# EAGLE library part RJ45_WITH_ELEC (library 3D_MIG_Controller)
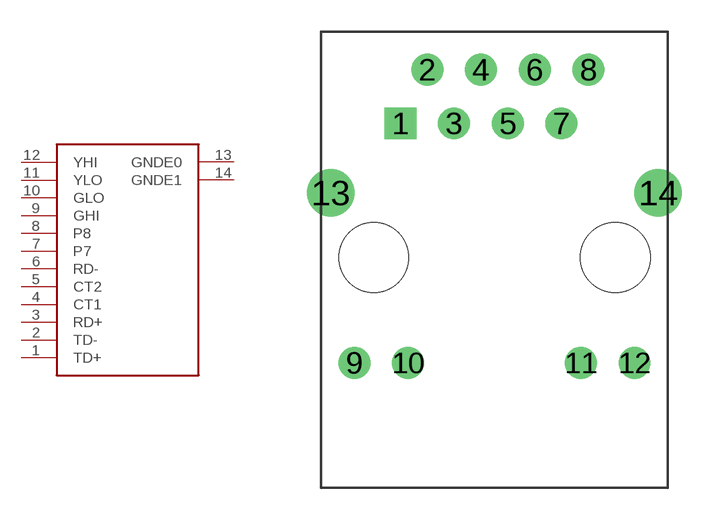
[diagram p26: symbol with the pads of RJ45_TH_ELEC; footprint RJ45_TH_ELEC]

Designator prefix RJ

## RJ45_WITH_ELEC  [RJ45_TH_ELEC]
1  TD+
2  TD-
3  RD+
4  CT1
5  CT2
6  RD-
7  P7
8  P8
9  GHI
10  GLO
11  YLO
12  YHI
13  GNDE0
14  GNDE1

## Footprint RJ45_TH_ELEC (pad centres in mm)
drill 1 square: 1 -4.45,-2.54
drill 1: 2 -3.18,0; 3 -1.91,-2.54; 4 -0.635,0; 5 0.635,-2.54; 6 1.91,0; 7 3.17,-2.54; 8 4.445,0; 9 -6.63,-13.88; 10 -4.09,-13.88; 11 4.09,-13.88; 12 6.63,-13.88
drill 1.5: 13 -7.75,-5.84; 14 7.75,-5.84
hole 3.299 at 5.715,-8.89
hole 3.299 at -5.715,-8.89